# EAGLE library part SN74LVC2G14_SCHMITT_TRIGGER (library Tristan+Robitaille's+Library)
SN74LVC2G14 Dual Schmitt-Trigger Inverter Technical specifications: Supply input range: -0.5V to 6.5V VT+: 1.3V to 2.2V @ VCC = 3V VT-: 0.6V to 1.3V @ VCC = 3V Datasheet <http://www.ti.com/lit/ds/symlink/sn74lvc2g14.pdf> Digi-Key part #: 296-35955-1-ND <http://www.digikey.ca/product-detail/en/texas-instruments/SN74LVC2G14DBVRG4/296-35955-1-ND/4134935> Mouser part #: 595-SN74LVC2G14DBVG4 <http://ca.mouser.com/ProductDetail/Texas-Instruments/SN74LVC2G14DBVRG4/?qs=%2fha2pyFadugMp4VWJ0sWGWcpRLBodzlxUsNF15nZCgBwrmDyAhLufw%3d%3d> Manufacturer part #: SN74LVC2G14DBVRG4
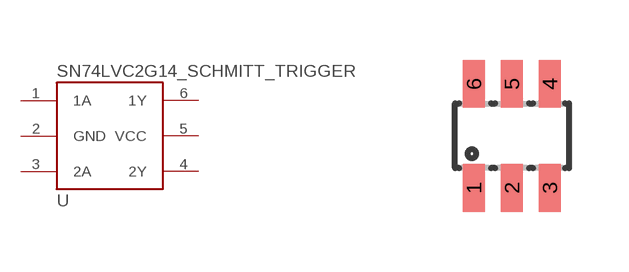
[diagram p9: symbol with the pads of SOT23-6L; footprint SOT23-6L]

Designator prefix U

## SN74LVC2G14_SCHMITT_TRIGGER  [SOT23-6L]
1  1A  in
2  GND  pwr
3  2A  in
4  2Y  out
5  VCC  pwr
6  1Y  out

## Footprint SOT23-6L (pad centres in mm)
Small Outline Transistor
smd 0.55 x 1.2: 1 -0.95,-1.3; 2 0,-1.3; 3 0.95,-1.3; 4 0.95,1.3; 5 0,1.3; 6 -0.95,1.3